# Altium footprint library QuadMain.PcbLib: 4 footprints
Each footprint in its own frame and in the unit in brackets; x right, y up, seen from the top. Pads: shape width x height; smd on the part's side, far side on the other; paste and mask are expansions set on the pad; w line width, h text height; cw(c..) or ccw(c..) is an arc to the next point about the centre after c.
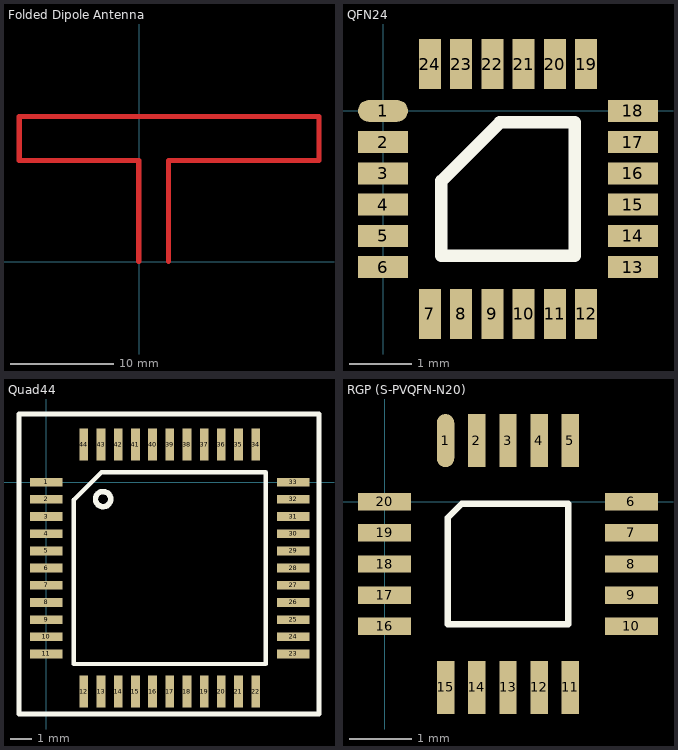
[diagram p0: the footprints below, top view; thin cyan lines are the x and y axes]

## Folded Dipole Antenna [mm] "PCB antenna for CC2500"
Top Layer:
  lines w0.5: -0.051,0 -0.051,9.855 -11.684,9.855 -11.684,14.122 -11.709,14.148 16.993,14.148 17.501,14.148 17.501,9.855 2.845,9.855 2.845,0

## QFN24 [mm]
pads (24):
  oval 0.8x0.35 smd: 1(0,0)
  rect 0.8x0.35 smd: 2(0,-0.5) 3(0,-1) 4(0,-1.5) 5(0,-2) 6(0,-2.5) 13(4,-2.5) 14(4,-2) 15(4,-1.5) 16(4,-1) 17(4,-0.5) 18(4,0)
  rect 0.35x0.8 smd: 7(0.75,-3.25) 8(1.25,-3.25) 9(1.75,-3.25) 10(2.25,-3.25) 11(2.75,-3.25) 12(3.25,-3.25) 19(3.25,0.75) 20(2.75,0.75) 21(2.25,0.75) 22(1.75,0.75) 23(1.25,0.75) 24(0.75,0.75)
Top Overlay:
  lines w0.2: 0.935,-2.315 3.065,-2.315 3.065,-0.185 1.87,-0.185 0.935,-1.12 0.935,-2.315
3D body: height 1, standoff 0, extent 0.032,-3.27 4.032,0.73

## Quad44 [mm]
pads (44):
  rect 1.5x0.406 smd: 1(0,0) 2(0,-0.8) 3(0,-1.6) 4(0,-2.4) 5(0,-3.2) 6(0,-4) 7(0,-4.8) 8(0,-5.6) 9(0,-6.4) 10(0,-7.2) 11(0,-8) 23(11.5,-8) 24(11.5,-7.2) 25(11.5,-6.4) 26(11.5,-5.6) 27(11.5,-4.8) 28(11.5,-4) 29(11.5,-3.2) 30(11.5,-2.4) 31(11.5,-1.6) 32(11.5,-0.8) 33(11.5,0)
  rect 0.406x1.5 smd: 12(1.75,-9.75) 13(2.55,-9.75) 14(3.35,-9.75) 15(4.15,-9.75) 16(4.95,-9.75) 17(5.75,-9.75) 18(6.55,-9.75) 19(7.35,-9.75) 20(8.15,-9.75) 21(8.95,-9.75) 22(9.75,-9.75) 34(9.75,1.75) 35(8.95,1.75) 36(8.15,1.75) 37(7.35,1.75) 38(6.55,1.75) 39(5.75,1.75) 40(4.95,1.75) 41(4.15,1.75) 42(3.35,1.75) 43(2.55,1.75) 44(1.75,1.75)
Top Overlay:
  circle w0.254: c2.644,-0.787 r0.353
  lines w0.2: 1.285,-8.465 1.285,-0.82 2.57,0.465 10.215,0.465 10.215,-8.465 1.285,-8.465
  lines w0.254: -1.27,-10.795 12.7,-10.795 12.7,3.175 -1.27,3.175 -1.27,-10.795
3D body: height 1, standoff -0.15, extent -0.272,-10 11.753,2.024

## RGP (S-PVQFN-N20) [mm]
pads (20):
  oval 0.28x0.85 smd: 1(0.975,0.975)
  rect 0.28x0.85 smd: 2(1.475,0.975) 3(1.975,0.975) 4(2.475,0.975) 5(2.975,0.975) 11(2.975,-2.975) 12(2.475,-2.975) 13(1.975,-2.975) 14(1.475,-2.975) 15(0.975,-2.975)
  rect 0.85x0.28 smd: 6(3.95,0) 7(3.95,-0.5) 8(3.95,-1) 9(3.95,-1.5) 10(3.95,-2) 16(0,-2) 17(0,-1.5) 18(0,-1) 19(0,-0.5) 20(0,0)
Top Overlay:
  lines w0.1: 1.01,-1.965 1.01,-0.26 1.235,-0.035 2.94,-0.035 2.94,-1.965 1.01,-1.965
3D body: height 1, standoff 0, extent -0.099,-3.071 4.061,1.09